# EAGLE library part MMBD4448HSDW-7-F (library LARS_409_DIODE)
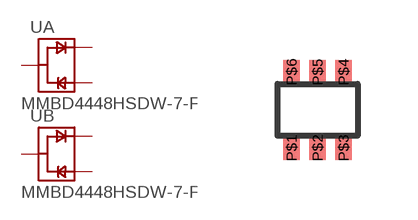
[diagram p0: symbol with the pads of SOT-363; footprint SOT-363]

Designator prefix U; gates A=NUP B=NUP

## MMBD4448HSDW-7-F  [SOT-363]
P$1  A:GND
P$2  A:VCC
P$3  B:I/O
P$4  B:GND
P$5  B:VCC
P$6  A:I/O

## Footprint SOT-363 (pad centres in mm)
smd 0.42 x 0.6: P$1 -0.65,-0.95; P$2 0,-0.95; P$3 0.65,-0.95; P$4 0.65,0.95; P$5 0,0.95; P$6 -0.65,0.95